# EAGLE library part MEMORY-M27C160-REVERS (library ZIF40ROM)
MEMORY
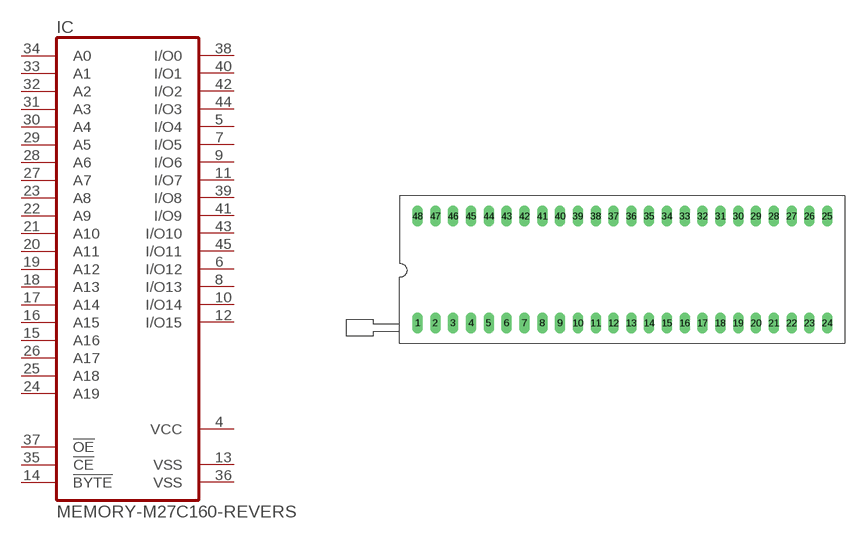
[diagram p2: symbol with the pads of MEMORY-HITACHI_ZIF48; footprint MEMORY-HITACHI_ZIF48]

Designator prefix IC

## MEMORY-M27C160-REVERS  [MEMORY-HITACHI_ZIF48]
4  VCC  pwr
5  I/O4  hiz
6  I/O12  hiz
7  I/O5  hiz
8  I/O13  hiz
9  I/O6  hiz
10  I/O14  hiz
11  I/O7  hiz
12  I/O15  hiz
13  VSS  pwr
14  !BYTE  in
15  A16  in
16  A15  in
17  A14  in
18  A13  in
19  A12  in
20  A11  in
21  A10  in
22  A9  in
23  A8  in
24  A19  in
25  A18  in
26  A17  in
27  A7  in
28  A6  in
29  A5  in
30  A4  in
31  A3  in
32  A2  in
33  A1  in
34  A0  in
35  !CE  in
36  VSS  pwr
37  !OE  in
38  I/O0  hiz
39  I/O8  hiz
40  I/O1  hiz
41  I/O9  hiz
42  I/O2  hiz
43  I/O10  hiz
44  I/O3  hiz
45  I/O11  hiz

## Footprint MEMORY-HITACHI_ZIF48 (pad centres in mm)
Dual In Line Package
drill 1 long: 1 -24.13,-7.62; 2 -21.59,-7.62; 3 -19.05,-7.62; 4 -16.51,-7.62; 5 -13.97,-7.62; 6 -11.43,-7.62; 7 -8.89,-7.62; 8 -6.35,-7.62; 9 -3.81,-7.62; 10 -1.27,-7.62; 11 1.27,-7.62; 12 3.81,-7.62; 13 6.35,-7.62; 14 8.89,-7.62; 15 11.43,-7.62; 16 13.97,-7.62; 17 16.51,-7.62; 18 19.05,-7.62; 19 21.59,-7.62; 20 24.13,-7.62; 21 26.67,-7.62; 22 29.21,-7.62; 23 31.75,-7.62; 24 34.29,-7.62; 25 34.29,7.62; 26 31.75,7.62; 27 29.21,7.62; 28 26.67,7.62; 29 24.13,7.62; 30 21.59,7.62; 31 19.05,7.62; 32 16.51,7.62; 33 13.97,7.62; 34 11.43,7.62; 35 8.89,7.62; 36 6.35,7.62; 37 3.81,7.62; 38 1.27,7.62; 39 -1.27,7.62; 40 -3.81,7.62; 41 -6.35,7.62; 42 -8.89,7.62; 43 -11.43,7.62; 44 -13.97,7.62; 45 -16.51,7.62; 46 -19.05,7.62; 47 -21.59,7.62; 48 -24.13,7.62